# Altium footprint library CUI PJ-040D.PCBLIB: 1 footprints
Each footprint in its own frame and in the unit in brackets; x right, y up, seen from the top. Pads: shape width x height; smd on the part's side, far side on the other; paste and mask are expansions set on the pad; w line width, h text height; cw(c..) or ccw(c..) is an arc to the next point about the centre after c.
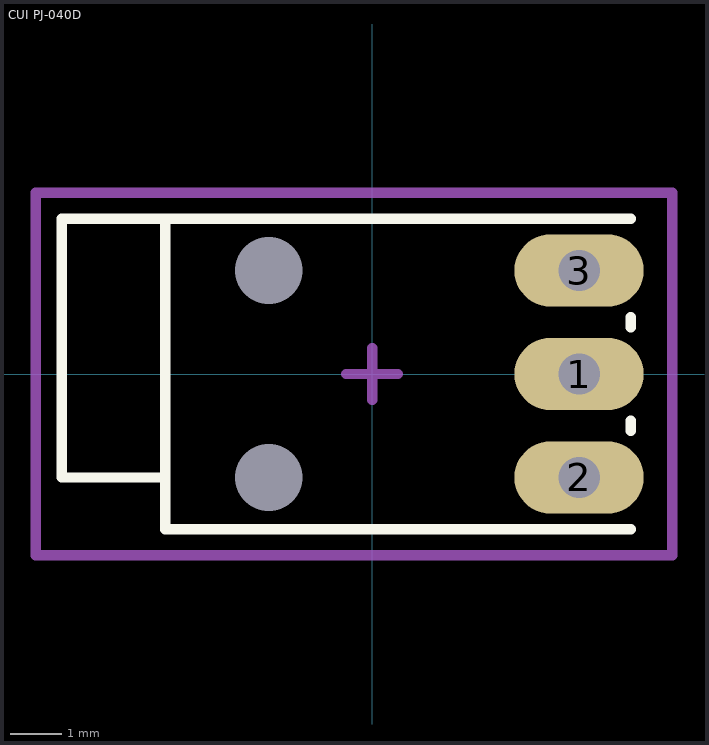
[diagram p0: the footprint, top view; thin cyan lines are the x and y axes]

## CUI PJ-040D [mm]
height 5
pads (5):
  oval 2.5x1.4 hole 0.8 square: 1(4,0) 2(4,-2) 3(4,2)
  round 0 hole 1.3 unplated: M(-2,-2) M(-2,2)
Top Overlay:
  lines w0.2: -4,3 -4,-2 ; 5,-3 -4,-3 -4,-2 ; 5,-1.1 5,-0.9 ; 5,0.9 5,1.1 ; 5,3 -6,3 -6,-2 -4,-2
Mechanical 15:
  lines w0.2: -0.5,0 0.5,0 ; 0,-0.5 0,0.5 ; -6.5,-3.5 -6.5,3.5 5.8,3.5 5.8,-3.5 -6.5,-3.5
3D body "CUI pj-040d.STEP": height 5, standoff -3, extent -6,-3 5,3